# Altium integrated library Memory Connectors.IntLib: 1 symbol
Pins are listed as number, name and electrical type; pins without a type are passive.

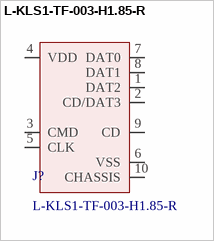
[diagram p0: symbol L-KLS1-TF-003-H1.85-R]

## L-KLS1-TF-003-H1.85-R
designator J?
CONNECTOR MICRO SD CARD SMD KLS /; Manufacturer: KLS ELECTRONIC; Designed: Ferdi; Insertion, Removal Method: PUSH-PUSH; Ejector Side: RIGHT; Number of Position: 8; Card Type: MICRO SD CONNECTORS; Packaging: TAPE&REEL; Rohs: ROHS; Operating Temperature: -25°C~+90°C; Housing Color: GRAY; Contact Plating: COPPER ALLOY; Height Above Board: 1.85mm; Mounting Type: SMT; Series No: KLS1-TF-003; ComponentLink1Description: Datasheet; ComponentLink1URL: https://cdn.ozdisan.com/ETicaret_Dosya/466548_2616024.PDF
footprint L-KLS1-TF-003-H1.85-R
pins: 1 DAT2, 2 CD/DAT3, 3 CMD, 4 VDD, 5 CLK, 6 VSS, 7 DAT0, 8 DAT1, 9 CD, 10 CHASSIS